# EAGLE library part TC2030-NL (library parts)
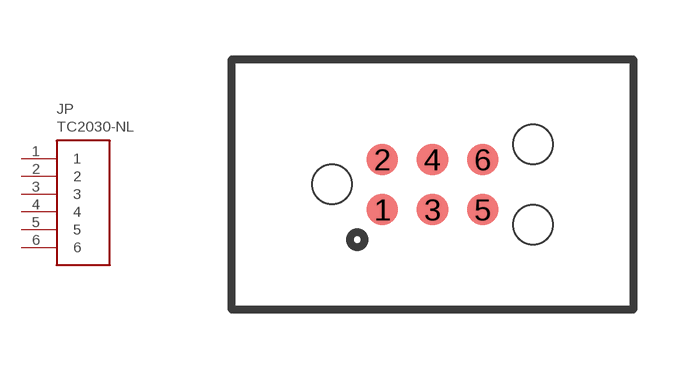
[diagram p13: symbol with the pads of TC2030-IDC-NL; footprint TC2030-IDC-NL]

Designator prefix JP

## TC2030-NL"  [TC2030-IDC-NL]
1  1  pas
2  2  pas
3  3  pas
4  4  pas
5  5  pas
6  6  pas

## Footprint TC2030-IDC-NL (pad centres in mm)
smd 0.8 x 0.8: 1 -1.27,-0.635; 2 -1.27,0.635; 3 0,-0.635; 4 0,0.635; 5 1.27,-0.635; 6 1.27,0.635
hole 1 at -2.54,0
hole 1 at 2.54,1.016
hole 1 at 2.54,-1.016